# EAGLE library part AD834X (library CougsInSpace-RF)
Quadrature Modulator AD8345 <https://github.com/CougsInSpace/Resources/blob/master/SupplierDocuments/Linear/AD8345_QuadratureModulator-140~1000MHz.pdf> - 140~1000MHz AD8346 <https://github.com/CougsInSpace/Resources/blob/master/SupplierDocuments/Linear/AD8346_QuadratureModulator-800~2500MHz.pdf> - 800~2500MHz
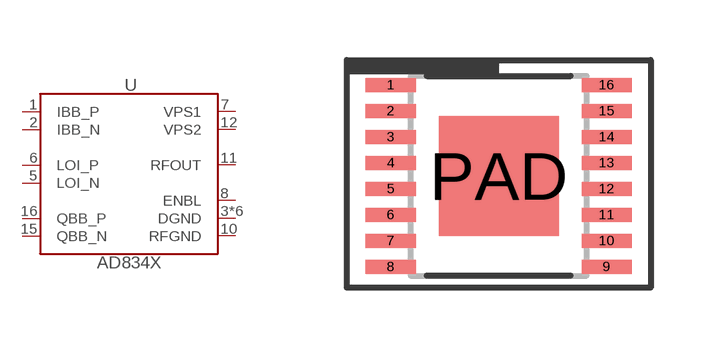
[diagram p1: symbol with the pads of TSSOP-16; footprint TSSOP-16]

Designator prefix U

## AD834X5 (SKU: 65-0002; VALUE: AD8345), AD834X6 (SKU: 65-0003; VALUE: AD8346)  [TSSOP-16]
1  IBB_P  in
2  IBB_N  in
3  DGND  pwr
4  DGND  pwr
5  LOI_N  in
6  LOI_P
7  VPS1  pwr
8  ENBL  in
9  DGND  pwr
10  RFGND  pwr
11  RFOUT  out
12  VPS2  pwr
13  DGND  pwr
14  DGND  pwr
15  QBB_N  in
16  QBB_P  in
PAD  DGND  pwr

## Footprint TSSOP-16 (pad centres in mm)
Thin Shrink Small Outline Package - 16 Pins
smd 1.25 x 0.35: 1 -2.7,2.275; 2 -2.7,1.625; 3 -2.7,0.975; 4 -2.7,0.325; 5 -2.7,-0.325; 6 -2.7,-0.975; 7 -2.7,-1.625; 8 -2.7,-2.275; 9 2.7,-2.275; 10 2.7,-1.625; 11 2.7,-0.975; 12 2.7,-0.325; 13 2.7,0.325; 14 2.7,0.975; 15 2.7,1.625; 16 2.7,2.275
smd 3 x 3: PAD 0,0